# EAGLE library part M24M01-RMN6P (library ST Microelectronics)
1 Mbit serial I²C bus EEPROM
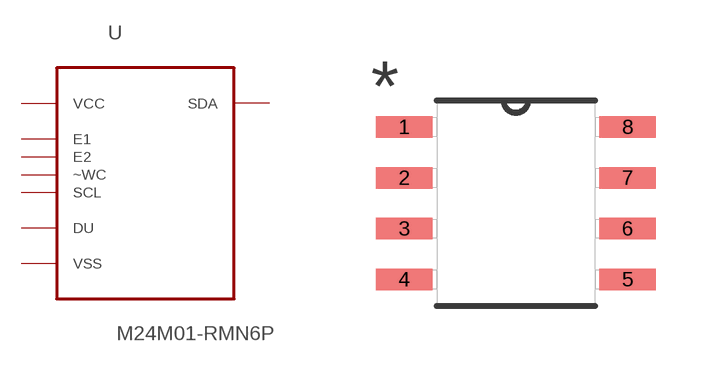
[diagram p159: symbol with the pads of SOIC127P600X175-8N; footprint SOIC127P600X175-8N]

Designator prefix U

## M24M01-RMN6P (MPN: M24M01-RMN6P; OC_FARNELL: 1670817; OC_NEWARK: 19P1132; PACKAGE: SOIC-8; SUPPLIER: STMICROELECTRONICS)  [SOIC127P600X175-8N]
1  DU  in
2  E1  in
3  E2  in
4  VSS  pwr
5  SDA  out
6  SCL  in
7  ~WC  in
8  VCC  pwr

## Footprint SOIC127P600X175-8N (pad centres in mm)
smd 1.422 x 0.533: 1 -2.794,1.905; 2 -2.794,0.635; 3 -2.794,-0.635; 4 -2.794,-1.905; 5 2.794,-1.905; 6 2.794,-0.635; 7 2.794,0.635; 8 2.794,1.905